# EAGLE library part LT1129CS8 (library linear-technology-2)
VOLTAGE REGULATOR with shutdown
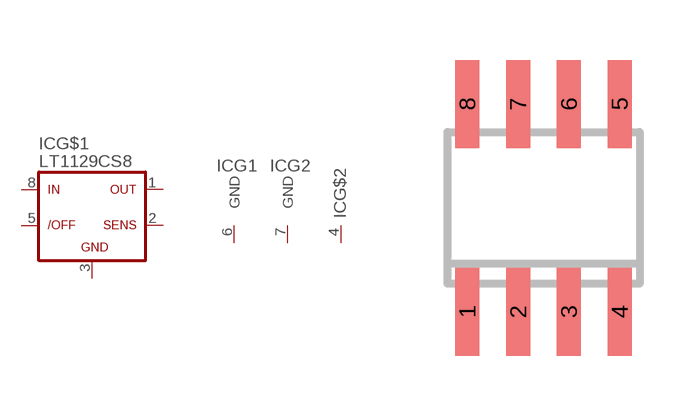
[diagram p0: symbol with the pads of SO08; footprint SO08]

Designator prefix IC; gates G$1=LT1129 G1=GND G2=GND G$2=NC

## LT1129CS8  [SO08]
1  G$1:OUT  out
2  G$1:SENSE  in
3  G$1:GND  pwr
4  G$2:NC  nc
5  G$1:/SHDN  in
6  G1:GND  pwr
7  G2:GND  pwr
8  G$1:IN  in

## Footprint SO08 (pad centres in mm)
Small Outline IC
smd 0.6 x 2.2: 1 -1.905,-2.6; 2 -0.635,-2.6; 3 0.635,-2.6; 4 1.905,-2.6; 5 1.905,2.6; 6 0.635,2.6; 7 -0.635,2.6; 8 -1.905,2.6